# EAGLE library part SJ-43516-SMT (library tiny_stella)
Conn 3.5MM Audio Jack F 6 POS Solder RA SMD 6 Terminal 1 Port
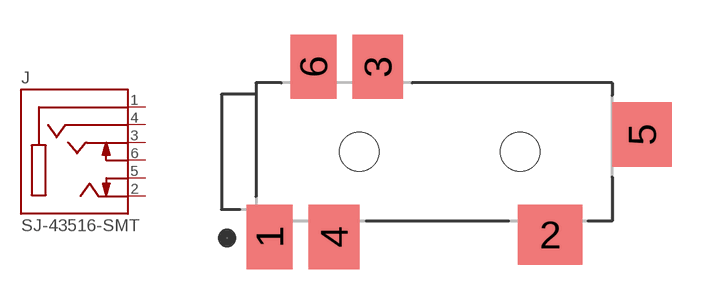
[diagram p4: symbol with the pads of CUI_SJ-43516-SMT; footprint CUI_SJ-43516-SMT]

Designator prefix J

## SJ-43516-SMT (MANUFACTURER: CUI INC; PART_REV: 1.02; STANDARD: MANUFACTURER RECOMMENDATIONS)  [CUI_SJ-43516-SMT]
1  SLEEVE  pas
2  TIP  pas
3  RING1  pas
4  RING2  pas
5  TIP_SWITCH  pas
6  RING_SWITCH  pas

## Footprint CUI_SJ-43516-SMT (pad centres in mm)
smd 2 x 2.8: 1 -7.15,-3.7; 6 -5.25,3.7
smd 2.8 x 2.6: 2 5.05,-3.6
smd 2.2 x 2.8: 3 -2.45,3.7; 4 -4.35,-3.7
smd 2.6 x 2.8: 5 9.05,0.75
hole 1.7 at -3.25,0
hole 1.7 at 3.75,0